# Altium schematic symbol library Comparators.schlib: 1 symbol
Pins are listed as number, name and electrical type; pins without a type are passive.

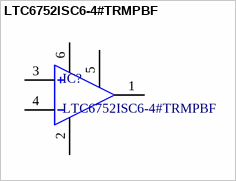
[diagram p0: symbol LTC6752ISC6-4#TRMPBF]

## LTC6752ISC6-4#TRMPBF
designator IC?
280MHz, 2.9ns Comparator / Family with Rail-to-Rail Inputs / and CMOS Outputs; Manufacturer: Linear Technology; Digikey Part Number: LTC6752ISC6-4#TRMPBFCT-ND; Manufacturer Part Number: LTC6752ISC6-4#TRMPBF; ComponentLink1Description: Datasheet; ComponentLink1URL: http://www.analog.com/media/en/technical-documentation/data-sheets/6752fc.pdf; Mouser Part Number: 584-C6752HSC6-4TMPF; Farnell Part Number: 2471132; RSonline Part Number: 151-3322; ComponentLink2Description: RSonline; ComponentLink2URL: https://dk.rs-online.com/web/p/komparatorer/1513322/; ComponentLink3Description: Farnell; ComponentLink3URL: http://dk.farnell.com/linear-technology/ltc6752isc6-4-trmpbf/comparator-single-3-4ns-sc-70/dp/2471132?ost=LTC6752ISC6-4%23TRMPBF&ddkey=http%3Ada-DK%2FElement14_Denmark%2Fsearch; ComponentLink4Description: Digikey; ComponentLink4URL: https://www.digikey.com/product-detail/en/linear-technology-analog-devices/LTC6752ISC6-4-TRMPBF/LTC6752ISC6-4-TRMPBFCT-ND/5167574; ComponentLink5Description: Mouser; ComponentLink5URL: https://www.mouser.dk/ProductDetail/Analog-Devices/LTC6752HSC6-4TRMPBF?qs=sGAEpiMZZMuayl%2fEk2kXcXIDC2NbMwerB%252b7HFhEml5gcA%252bvo9LhVbA%3d%3d; Published: 2018-06-25; Publisher: JEO; LatestRevisionNote: Creation; LatestRevisionDate: 2018-06-25; PackageDescription: 6-lead plastic SC70; PackageReference: SC6; PackageVersion: 05-08-1638 Rev B); DatasheetVersion: Rev C; Mounting Technology: Surface Mount; Operating Temperature Range: -40 to 85 degC; Propagation Delay: 2.9ns
footprint LT_SC6 (SC70, 6-Leads, Body 2x1.25mm, Pitch 0.65mm)
pins: 1 Q, 2 Vee (power), 3 pos, 4 neg, 5 Vdd, 6 Vcc